# Altium footprint library testpoint.PcbLib: 1 footprints
Each footprint in its own frame and in the unit in brackets; x right, y up, seen from the top. Pads: shape width x height; smd on the part's side, far side on the other; paste and mask are expansions set on the pad; w line width, h text height; cw(c..) or ccw(c..) is an arc to the next point about the centre after c.
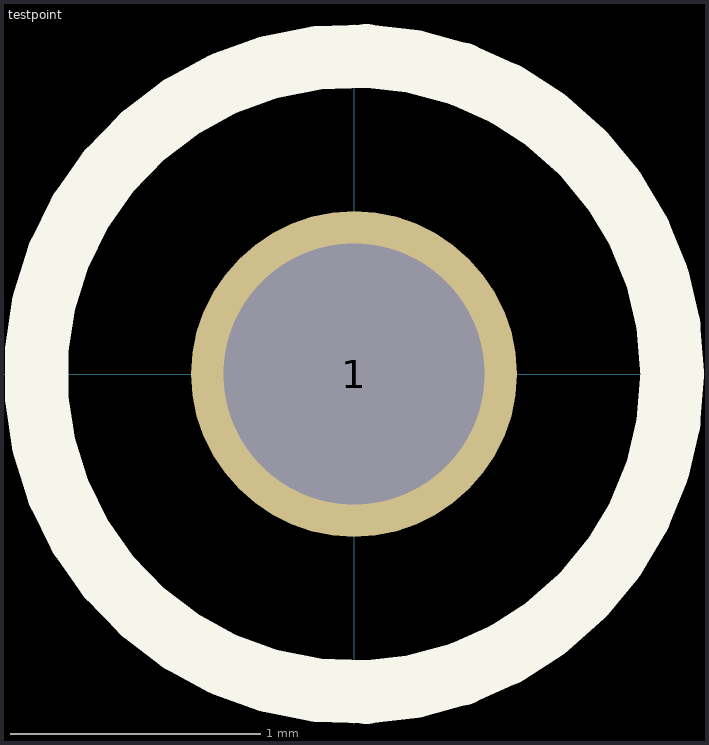
[diagram p0: the footprint, top view; thin cyan lines are the x and y axes]

## testpoint [mm]
pads (1):
  round 1.3 hole 1.04: 1(0,0)
Top Overlay:
  circle w0.254: c0,0 r1.27
3D body "5003--3DModel-STEP-56544.STEP": height 4.6, standoff -3.02, extent -1.27,-1.27 1.27,1.27